# Altium footprint library 235-403.PcbLib: 1 footprints
Each footprint in its own frame and in the unit in brackets; x right, y up, seen from the top. Pads: shape width x height; smd on the part's side, far side on the other; paste and mask are expansions set on the pad; w line width, h text height; cw(c..) or ccw(c..) is an arc to the next point about the centre after c.
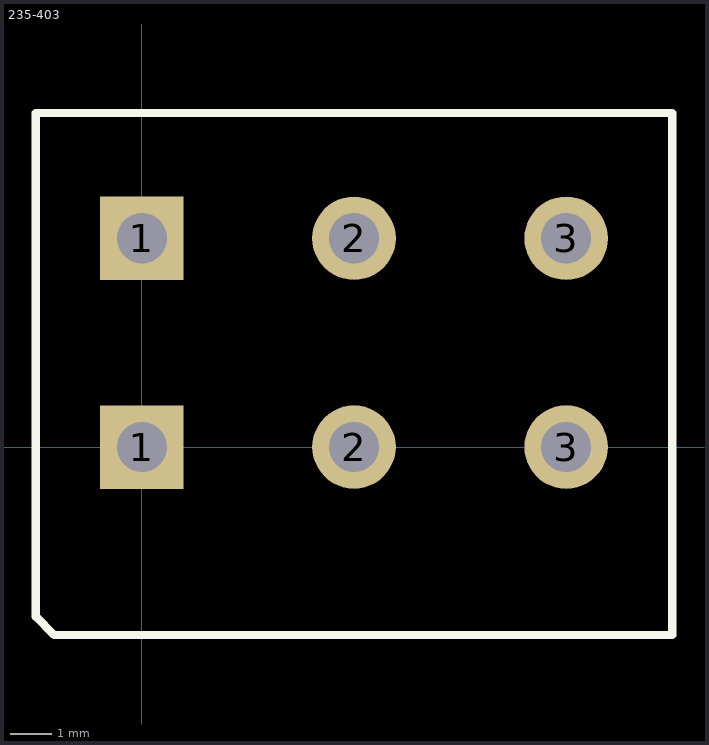
[diagram p0: the footprint, top view; thin cyan lines are the x and y axes]

## 235-403 [mm] "Pin Spacings 5/5.08 mm/0.2 in"
pads (6):
  rect 2x2 hole 1.2: 1(0,0) 1(0,5)
  round 2 hole 1.2: 2(5.08,0) 2(5.08,5) 3(10.16,0) 3(10.16,5)
Top Overlay:
  lines w0.2: -2.54,-4.06 -2.54,8 12.7,8 12.7,-4.5 -2.1,-4.5 -2.54,-4.06
Mechanical 15:
  text "'.Designator'" at -2.2,-3.634 h2
3D body "wago-235-403.STEP": height 14.8, standoff -3.6, extent -3.5,-4.5 13.24,8